# EAGLE library part IT600 (library X893)
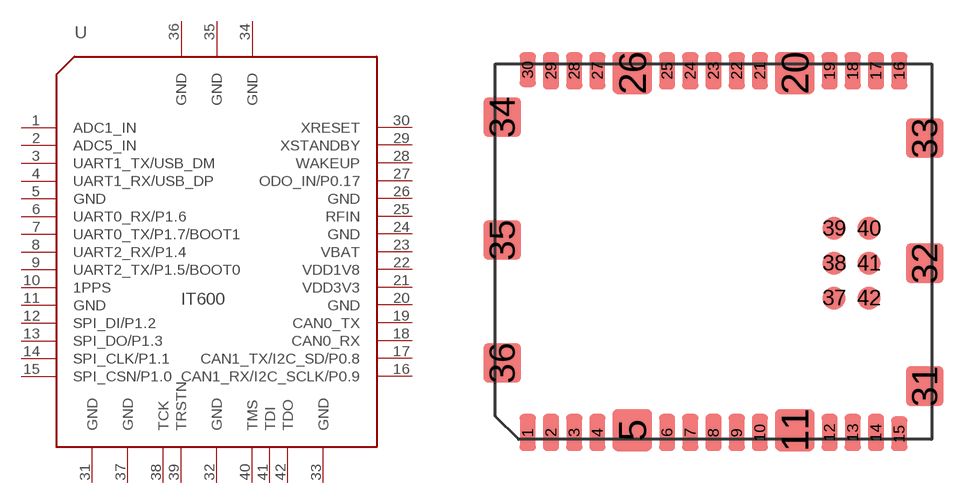
[diagram p136: symbol with the pads of IT600; footprint IT600]

Designator prefix U

## IT600  [IT600]
1  ADC1_IN  pas
2  ADC5_IN  pas
3  UART1_TX/USB_DM
4  UART1_RX/USB_DP
5  GND  sup
6  UART0_RX/P1.6
7  UART0_TX/P1.7/BOOT1
8  UART2_RX/P1.4
9  UART2_TX/P1.5/BOOT0
10  1PPS  out
11  GND  sup
12  SPI_DI/P1.2
13  SPI_DO/P1.3
14  SPI_CLK/P1.1
15  SPI_CSN/P1.0
16  CAN1_RX/I2C_SCLK/P0.9
17  CAN1_TX/I2C_SD/P0.8
18  CAN0_RX  in
19  CAN0_TX  out
20  GND
21  VDD3V3  pwr
22  VDD1V8  pwr
23  VBAT  pwr
24  GND  sup
25  RFIN  pas
26  GND  sup
27  ODO_IN/P0.17
28  WAKEUP
29  XSTANDBY
30  XRESET
31  GND  sup
32  GND  sup
33  GND  sup
34  GND  sup
35  GND  sup
36  GND  sup
37  GND  sup
38  TCK  in
39  TRSTN  in
40  TMS  in
41  TDI  in
42  TDO  out

## Footprint IT600 (pad centres in mm)
smd 0.7 x 1.6: 1 -8,-7.8; 2 -7,-7.8; 3 -6,-7.8; 4 -5,-7.8; 6 -2,-7.8; 7 -1,-7.8; 8 0,-7.8; 9 1,-7.8; 10 2,-7.8; 12 5,-7.8; 13 6,-7.8; 14 7,-7.8; 16 8,7.8; 17 7,7.8; 18 6,7.8; 19 5,7.8; 21 2,7.8; 22 1,7.8; 23 0,7.8; 24 -1,7.8; 25 -2,7.8; 27 -5,7.8; 28 -6,7.8; 29 -7,7.8
smd 1.7 x 1.8: 5 -3.5,-7.7; 11 3.5,-7.7; 20 3.5,7.7; 26 -3.5,7.7
smd 0.7 x 1.5: 15 8,-7.85; 30 -8,7.85
smd 1.6 x 1.7: 31 9.1,-5.8; 32 9.1,-0.5; 33 9.1,4.9; 34 -9.1,5.8; 35 -9.1,0.5; 36 -9.1,-4.8
smd 1 x 1: 37 5.2,-2; 38 5.2,-0.5; 39 5.2,1; 40 6.7,1; 41 6.7,-0.5; 42 6.7,-2